# EAGLE library part NCD2400M (library SparkFun-Capacitors)
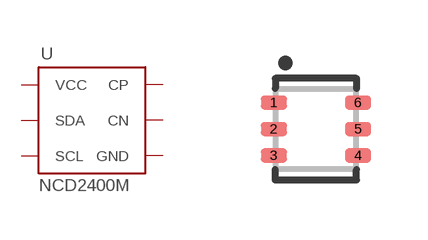
[diagram p0: symbol with the pads of DFN6; footprint DFN6]

Designator prefix U

## NCD2400MDFN  [DFN6]
1  SDA
2  CP  out
3  CN  out
4  VCC  pwr
5  GND  pwr
6  SCL

## Footprint DFN6 (pad centres in mm)
This is a DFN6 package for the I2C adjustable capacitor NCD2400M
smd 0.66 x 0.356: 1 -1.054,0.66; 2 -1.054,0; 3 -1.054,-0.66; 4 1.054,-0.66; 5 1.054,0; 6 1.054,0.66